# Altium footprint library SoldeerBoutLib.PcbLib: 31 footprints (part 2 of 2)
Each footprint in its own frame and in the unit in brackets; x right, y up, seen from the top. Pads: shape width x height; smd on the part's side, far side on the other; paste and mask are expansions set on the pad; w line width, h text height; cw(c..) or ccw(c..) is an arc to the next point about the centre after c.
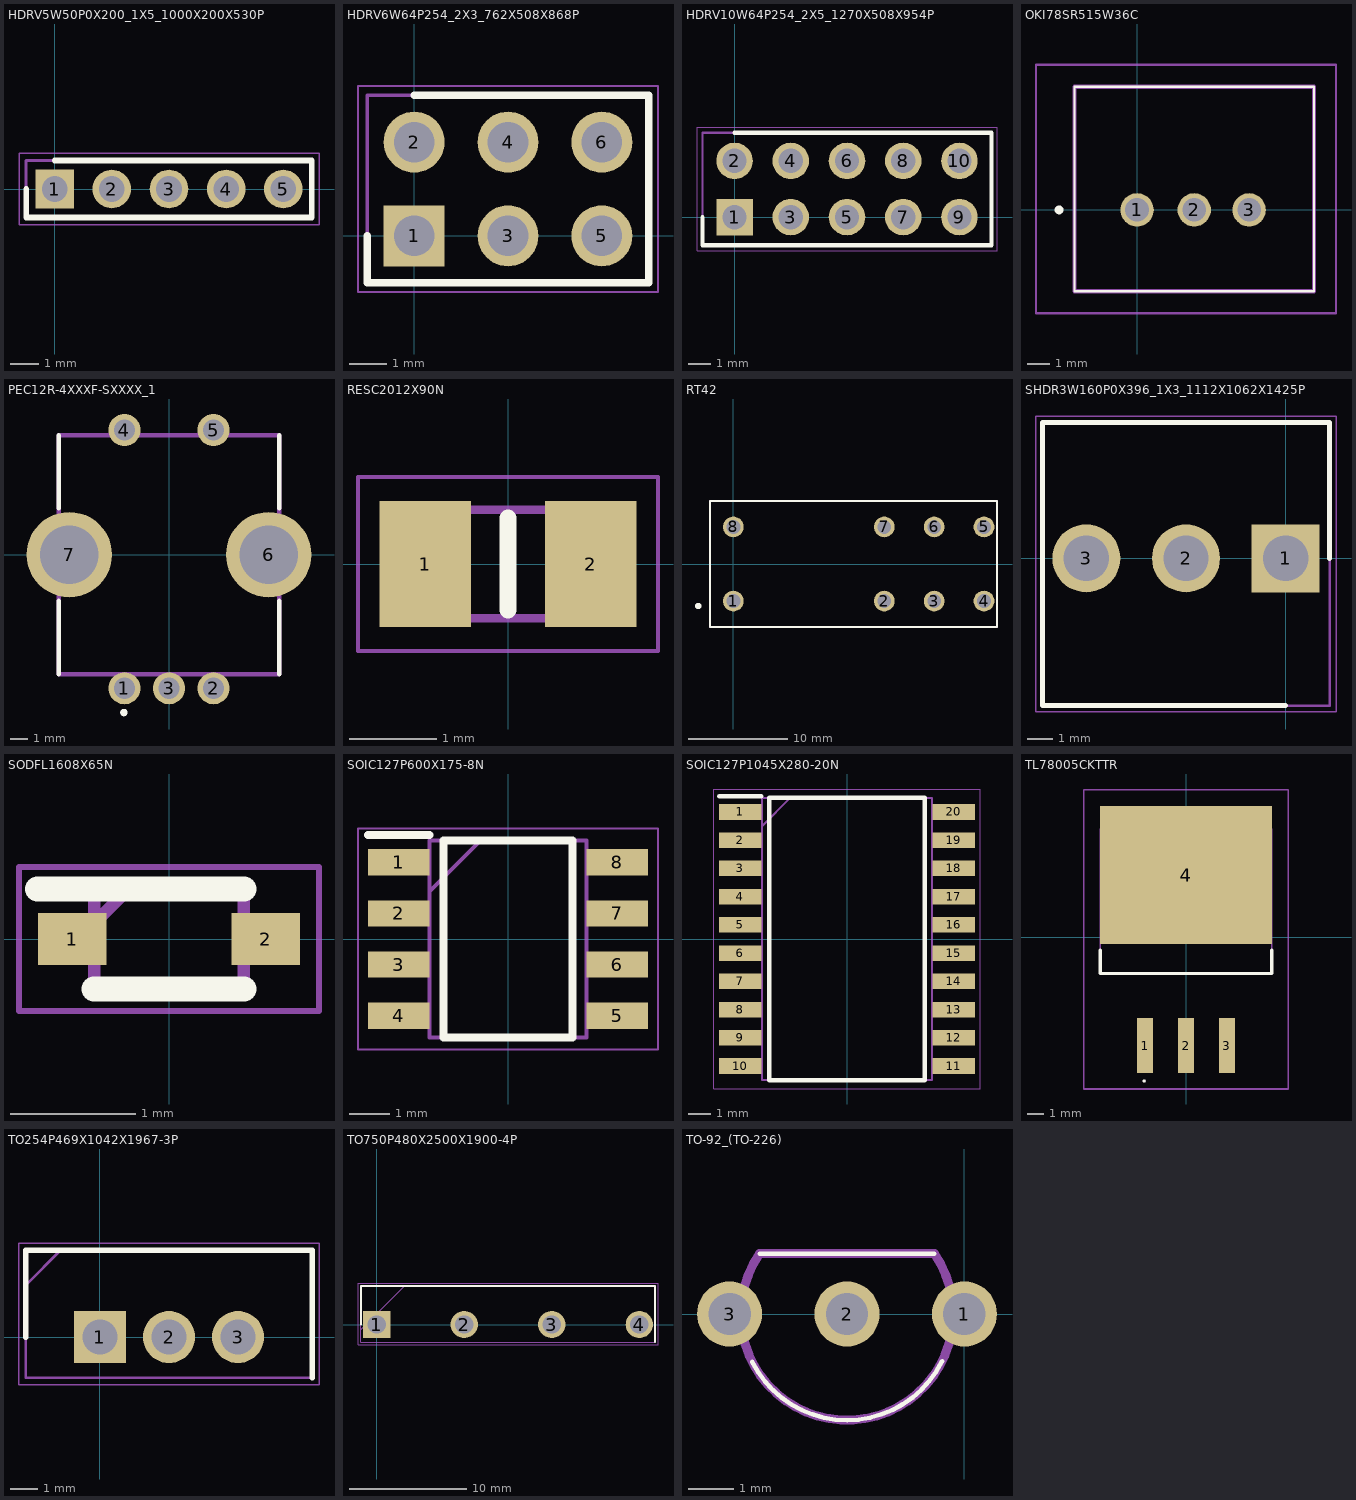
[diagram p1: the footprints below, top view; thin cyan lines are the x and y axes]

## HDRV5W50P0X200_1X5_1000X200X530P [mm]
pads (5):
  rect 1.35x1.35 hole 0.9: 1(0,0)
  round 1.35 hole 0.9: 2(2,0) 3(4,0) 4(6,0) 5(8,0)
Top Overlay:
  lines w0.2: -1,0 -1,-1 9,-1 9,1 0,1
Mechanical 13:
  lines w0.1: -1,-1 9,-1 9,1 -1,1 -1,-1
Mechanical 15:
  lines w0.05: -1.25,-1.25 9.25,-1.25 9.25,1.25 -1.25,1.25 -1.25,-1.25
3D body "M22-2010505.stp": height 5.3, standoff -3.5, extent -1,-1 9,1

## HDRV6W64P254_2X3_762X508X868P [mm]
pads (6):
  rect 1.65x1.65 hole 1.1: 1(0,0)
  round 1.65 hole 1.1: 2(0,2.54) 3(2.54,0) 4(2.54,2.54) 5(5.08,0) 6(5.08,2.54)
Top Overlay:
  lines w0.2: -1.27,0 -1.27,-1.27 6.35,-1.27 6.35,3.81 0,3.81
Mechanical 13:
  lines w0.1: -1.27,-1.27 6.35,-1.27 6.35,3.81 -1.27,3.81 -1.27,-1.27
Mechanical 15:
  lines w0.05: -1.52,-1.52 6.6,-1.52 6.6,4.06 -1.52,4.06 -1.52,-1.52
3D body "M20-9980346.stp": height 8.68, standoff -3, extent -1.27,-1.27 6.35,3.81

## HDRV10W64P254_2X5_1270X508X954P [mm]
pads (10):
  rect 1.65x1.65 hole 1.1: 1(0,0)
  round 1.65 hole 1.1: 2(0,2.54) 3(2.54,0) 4(2.54,2.54) 5(5.08,0) 6(5.08,2.54) 7(7.62,0) 8(7.62,2.54) 9(10.16,0) 10(10.16,2.54)
Top Overlay:
  lines w0.2: -1.445,0 -1.445,-1.27 11.605,-1.27 11.605,3.81 0,3.81
Mechanical 13:
  lines w0.1: -1.445,-1.27 11.605,-1.27 11.605,3.81 -1.445,3.81 -1.445,-1.27
Mechanical 15:
  lines w0.05: -1.695,-1.52 11.855,-1.52 11.855,4.06 -1.695,4.06 -1.695,-1.52
3D body "M20-9720546.stp": height 9.55, standoff -3.05, extent -1.27,-1.27 11.43,3.81

## OKI78SR515W36C [mm]
pads (3):
  round 1.519 hole 1.08: 1(0,0) 2(2.6,0) 3(5.1,0)
Top Overlay:
  lines w0.1: -2.85,-3.7 -2.85,5.6 8.05,5.6 8.05,-3.7 -2.85,-3.7
  lines w0.3: -3.6,0 ccw(c-3.55,0) -3.5,0 ccw(c-3.55,0) -3.6,0
Mechanical 13:
  lines w0.2: -2.85,-3.7 -2.85,5.6 8.05,5.6 8.05,-3.7 -2.85,-3.7
Mechanical 15:
  lines w0.1: -4.6,-4.7 -4.6,6.6 9.05,6.6 9.05,-4.7 -4.6,-4.7
3D body "OKI-78SR-5_1.5-W36-C.stp": height 16.6, standoff -5, extent -2.85,-3.7 8.05,5.6

## PEC12R-4XXXF-SXXXX_1 [mm]
pads (7):
  round 1.8 hole 1.2: 1(-2.5,-7.5) 2(2.5,-7.5) 3(0,-7.5) 4(-2.5,7) 5(2.5,7)
  round 4.8 hole 3.28: 6(5.6,0) 7(-5.6,0)
Top Overlay:
  circle w0.254: c-2.533,-8.863 r0.082
  lines w0.254: -6.2,-6.7 -6.2,-2.6 ; -6.2,2.6 -6.2,6.7 ; 6.2,-6.7 6.2,-2.6 ; 6.2,2.6 6.2,6.7
Mechanical 13:
  lines w0.254: -6.2,-6.7 -6.2,6.7 6.2,6.7 6.2,-6.7 -6.2,-6.7
3D body "PEC11R-4225F-S0024.stp": height 31.51, standoff -3.69, extent -7.005,-7.751 6.995,7.149

## RESC2012X90N [mm]
pads (2):
  rect 1.05x1.45 smd: 1(-0.95,0) 2(0.95,0)
Top Overlay:
  lines w0.2: 0,-0.525 0,0.525
Mechanical 13:
  lines w0.1: -1,-0.625 -1,0.625 1,0.625 1,-0.625 -1,-0.625
Mechanical 15:
  lines w0.05: -1.725,-1 -1.725,1 1.725,1 1.725,-1 -1.725,-1
3D body "CFN0805-JZ-R010ELF.stp": height 0.9, standoff 0, extent -1,-0.625 1,0.625

## RT42 [mm]
pads (8):
  round 2.1 hole 1.4: 1(0,-3.75) 2(15.26,-3.75) 3(20.3,-3.75) 4(25.34,-3.75) 5(25.34,3.75) 6(20.3,3.75) 7(15.26,3.75) 8(0,3.75)
Top Overlay:
  circle w0.4: c-3.547,-4.246 r0.126
  lines w0.2: -2.35,-6.35 26.65,-6.35 26.65,6.35 -2.35,6.35 -2.35,-6.35
Mechanical 13:
  lines w0.2: -2.35,-6.35 26.65,-6.35 26.65,6.35 -2.35,6.35 -2.35,-6.35
3D body "RT424005.stp": height 15.86, standoff -2.94, extent -2.21,-6.35 26.79,6.35

## SHDR3W160P0X396_1X3_1112X1062X1425P [mm]
pads (3):
  rect 2.7x2.7 hole 1.8: 1(0,0)
  round 2.7 hole 1.8: 2(-3.96,0) 3(-7.92,0)
Top Overlay:
  lines w0.2: 0,-5.85 -9.67,-5.85 -9.67,5.4 1.75,5.4 1.75,0
Mechanical 13:
  lines w0.1: -9.67,-5.85 -9.67,5.4 1.75,5.4 1.75,-5.85 -9.67,-5.85
Mechanical 15:
  lines w0.05: -9.92,-6.1 -9.92,5.65 2,5.65 2,-6.1 -9.92,-6.1
3D body "09-65-2038.stp": height 14.25, standoff -4.2, extent -9.52,-5.312 1.6,5.312

## SODFL1608X65N [mm]
pads (2):
  rect 0.55x0.42 smd: 1(-0.775,0) 2(0.775,0)
Top Overlay:
  lines w0.2: -1.05,0.4 0.6,0.4 ; -0.6,-0.4 0.6,-0.4
Mechanical 13:
  lines w0.1: -0.6,0.125 -0.325,0.4 ; -0.6,-0.4 0.6,-0.4 0.6,0.4 -0.6,0.4 -0.6,-0.4
Mechanical 15:
  lines w0.05: -1.2,-0.575 1.2,-0.575 1.2,0.575 -1.2,0.575 -1.2,-0.575
3D body "BZT52C12TQ-7-F.stp": height 0.65, standoff 0, extent -0.8,-0.4 0.8,0.4

## SOIC127P600X175-8N [mm]
pads (8):
  rect 1.525x0.65 smd: 1(-2.712,1.905) 2(-2.712,0.635) 3(-2.712,-0.635) 4(-2.712,-1.905) 5(2.712,-1.905) 6(2.712,-0.635) 7(2.712,0.635) 8(2.712,1.905)
Top Overlay:
  lines w0.2: -3.475,2.58 -1.95,2.58 ; -1.6,-2.45 -1.6,2.45 1.6,2.45 1.6,-2.45 -1.6,-2.45
Mechanical 13:
  lines w0.1: -1.95,1.18 -0.68,2.45 ; -1.95,-2.45 -1.95,2.45 1.95,2.45 1.95,-2.45 -1.95,-2.45
Mechanical 15:
  lines w0.05: -3.725,-2.75 -3.725,2.75 3.725,2.75 3.725,-2.75 -3.725,-2.75
3D body "NE555DR.stp": height 1.75, standoff 0, extent -3,-2.45 3,2.45

## SOIC127P1045X280-20N [mm]
pads (20):
  rect 1.9x0.7 smd: 1(-4.8,5.715) 2(-4.8,4.445) 3(-4.8,3.175) 4(-4.8,1.905) 5(-4.8,0.635) 6(-4.8,-0.635) 7(-4.8,-1.905) 8(-4.8,-3.175) 9(-4.8,-4.445) 10(-4.8,-5.715) 11(4.8,-5.715) 12(4.8,-4.445) 13(4.8,-3.175) 14(4.8,-1.905) 15(4.8,-0.635) 16(4.8,0.635) 17(4.8,1.905) 18(4.8,3.175) 19(4.8,4.445) 20(4.8,5.715)
Top Overlay:
  lines w0.2: -5.75,6.415 -3.85,6.415 ; -3.5,-6.35 -3.5,6.35 3.5,6.35 3.5,-6.35 -3.5,-6.35
Mechanical 13:
  lines w0.1: -3.825,5.08 -2.555,6.35 ; -3.825,-6.35 -3.825,6.35 3.825,6.35 3.825,-6.35 -3.825,-6.35
Mechanical 15:
  lines w0.05: -6,-6.75 -6,6.75 6,6.75 6,-6.75 -6,-6.75
3D body "TM1637__SOP_.stp": height 2.8, standoff 0, extent -5.225,-6.35 5.225,6.35

## TL78005CKTTR [mm]
pads (4):
  rect 1x3.4 smd: 1(-2.54,-6.745) 2(0,-6.745) 3(2.54,-6.745)
  rect 10.7x8.6 smd: 4(0,3.855)
Top Overlay:
  lines w0.1: -2.6,-9 ccw(c-2.6,-8.95) -2.6,-8.9 ccw(c-2.6,-8.95) -2.6,-9
  lines w0.2: -5.33,-0.8 -5.33,-2.27 5.33,-2.27 5.33,-0.8
Mechanical 13:
  lines w0.1: -5.33,-2.27 5.33,-2.27 5.33,6.745 -5.33,6.745 -5.33,-2.27
Mechanical 15:
  lines w0.1: -6.35,-9.445 6.35,-9.445 6.35,9.155 -6.35,9.155 -6.35,-9.445

## TO254P469X1042X1967-3P [mm]
pads (3):
  rect 1.92x1.92 hole 1.28: 1(0,0)
  round 1.92 hole 1.28: 2(2.54,0) 3(5.08,0)
Top Overlay:
  lines w0.2: -2.73,0 -2.73,3.195 7.81,3.195 7.81,-1.495
Mechanical 13:
  lines w0.1: -2.73,1.925 -1.46,3.195 ; -2.73,-1.495 7.81,-1.495 7.81,3.195 -2.73,3.195 -2.73,-1.495
Mechanical 15:
  lines w0.05: -2.98,-1.745 8.06,-1.745 8.06,3.445 -2.98,3.445 -2.98,-1.745
3D body "IRF9Z34NPBF.stp": height 18.84, standoff -17.51, extent -2.668,-1.495 7.748,3.195

## TO750P480X2500X1900-4P [mm]
pads (4):
  rect 2.34x2.34 hole 1.56: 1(0,0)
  round 2.34 hole 1.56: 2(7.5,0) 3(15,0) 4(22.5,0)
Top Overlay:
  lines w0.2: -1.35,0 -1.35,3.3 23.85,3.3 23.85,-1.5
Mechanical 13:
  lines w0.1: -1.35,-0.45 2.4,3.3 ; -1.35,-1.5 23.85,-1.5 23.85,3.3 -1.35,3.3 -1.35,-1.5
Mechanical 15:
  lines w0.05: -1.6,-1.75 24.1,-1.75 24.1,3.55 -1.6,3.55 -1.6,-1.75
3D body "KBJ608G.stp": height 18.5, standoff -30, extent -1.25,-1.5 23.75,3.3

## TO-92_(TO-226) [mm]
pads (3):
  round 1.44 hole 0.94: 1(0,0) 2(-2.6,0) 3(-5.2,0)
Top Overlay:
  lines w0.1: -4.701,-1.052 ccw(c-2.6,0) -0.497,-1.049 ; -4.532,1.338 -0.668,1.338
Mechanical 13:
  lines w0.2: -4.532,1.338 ccw(c-2.6,0) -0.668,1.338 ; -4.532,1.338 -0.668,1.338
3D body "BC547ATA.stp": height 9.2, standoff -12.58, extent -5.67,-1.79 0.49,2.4